# Altium schematic symbol library SCH - POWER - SWITCHMODE - TI TPS56628DDA.SchLib: 1 symbol
Pins are listed as number, name and electrical type; pins without a type are passive.

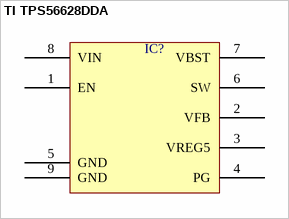
[diagram p0: symbol TI TPS56628DDA]

## TI TPS56628DDA
designator IC?  (value not drawn)
pins: 1 EN, 2 VFB, 3 VREG5, 4 PG, 5 GND, 6 SW, 7 VBST, 8 VIN, 9 GND